# EAGLE library part ADG1408YCPZ (library DAC)
4 Ohm RON, 8-Channel, ±15 V/+12 V/±5 V iCMOS Multiplexers Source: 8x ADG1408_1409.pdf
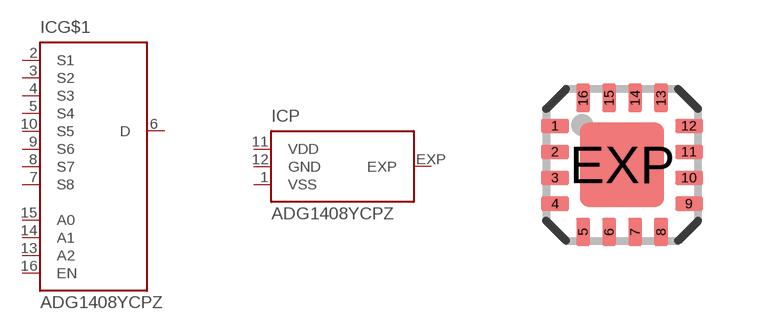
[diagram p60: symbol with the pads of LFCSP16; footprint LFCSP16]

Designator prefix IC; gates G$1=ADG1408 P=PWR-VSS_GND_VDD_EXP

## ADG1408YCPZ (MPN: ADG1408YCPZ-REEL7; OC_FARNELL: 1438940; OC_NEWARK: 28M3585)  [LFCSP16]
1  P:VSS  pwr
2  G$1:S1
3  G$1:S2
4  G$1:S3
5  G$1:S4
6  G$1:D
7  G$1:S8
8  G$1:S7
9  G$1:S6
10  G$1:S5
11  P:VDD  pwr
12  P:GND  pwr
13  G$1:A2  in
14  G$1:A1  in
15  G$1:A0  in
16  G$1:EN  in
EXP  P:EXP  pas

## Footprint LFCSP16 (pad centres in mm)
16-Terminal Leadless Frame Chip Scale Package [LFCSP] (CP) Source: Analog Devices .. 780914713ADD8704_0.pdf
smd 0.7 x 0.35: 1 -1.675,0.975; 2 -1.675,0.325; 3 -1.675,-0.325; 4 -1.675,-0.975; 9 1.675,-0.975; 10 1.675,-0.325; 11 1.675,0.325; 12 1.675,0.975
smd 0.35 x 0.7: 5 -0.975,-1.675; 6 -0.325,-1.675; 7 0.325,-1.675; 8 0.975,-1.675; 13 0.975,1.675; 14 0.325,1.675; 15 -0.325,1.675; 16 -0.975,1.675
smd 2.1 x 2.1: EXP 0,0